# EAGLE library part TEXAS_INSTRUMENTS_CD74HC4067M96 (library Upverter Library)
High-speed CMOS 16-channel analog multiplexer/demultiplexer 24-SOIC -55 to 125
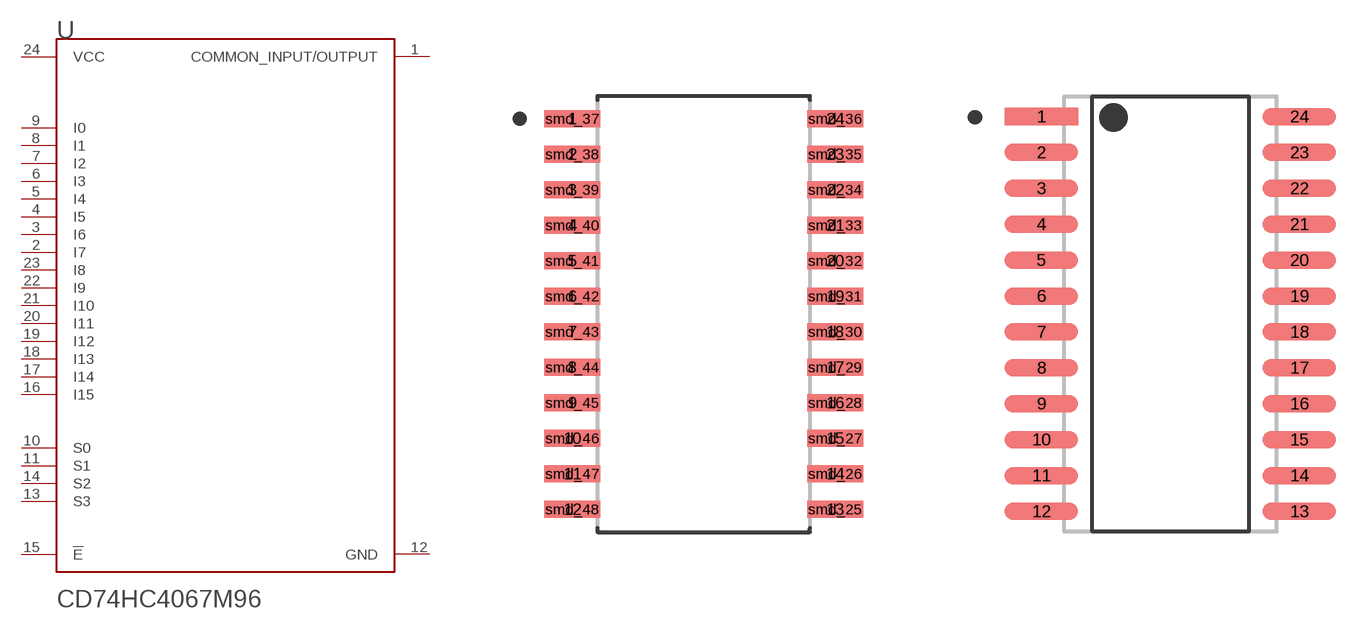
[diagram p0: symbol with the pads of TEXAS_INSTRUMENTS_CD74HC4067M96_0; footprints TEXAS_INSTRUMENTS_CD74HC4067M96_0, TEXAS_INSTRUMENTS_CD74HC4067M96_1]

Designator prefix U

## TEXAS_INSTRUMENTS_CD74HC4067M96TEXAS_INSTRUMENTS_CD74HC4067M96_0_0 (MF: Texas Instruments; MPN: CD74HC4067M96; ambient_temperature_range_high: +125°C; ambient_temperature_range_low: -55°C; automotive: No; centroid_not_specified: No; datasheet: http://www.ti.com/lit/ds/symlink/cd74hc4067.pdf; device_class_L1: Integrated Circuits (ICs); device_class_L2: Logic ICs; device_class_L3: Multiplexers; digikey_description: IC MUX/DEMUX 1X16 24SOIC; digikey_part_number: 296-29408-1-ND; footprint_parameters_1: {"fp_type":"SOIC_narrow","params":{"N":{"nom":24,"long name":"Number of leads","min":null,"max":null,"short name":"N","type":"count"},"A":{"nom":false,"long name":"Height","min":false,"max":2650000,"short name":"A","type":"measurement"},"A1":{"nom":false,"long name":"Package clearance","min":100000,"max":300000,"short name":"A1","type":"measurement"},"A2":{"nom":false,"long name":"Package height","min":false,"max":2550000,"short name":"A2","type":"measurement"},"D":{"nom":false,"long name":"Package length","min":15200000,"max":15600000,"short name":"D","type":"measurement"},"E":{"nom":false,"long name":"Width w/ leads","min":9970000,"max":10630000,"short name":"E","type":"measurement"},"E1":{"nom":false,"long name":"Package width","min":7400000,"max":7600000,"short name":"E1","type":"measurement"},"B":{"nom":false,"long name":"Lead width","min":310000,"max":510000,"short name":"B","type":"measurement"},"C":{"nom":false,"long name":"Lead thickness","min":200000,"max":330000,"short name":"C","type":"measurement"},"e":{"nom":1270000,"long name":"Lead pitch","min":null,"max":null,"short name":"e","type":"measurement"},"L":{"nom":false,"long name":"Lead foot length","min":400000,"max":1270000,"short name":"L","type":"measurement"},"PHI":{"nom":false,"long name":"Lead foot angle","min":0,"max":8000000,"short name":"PHI","type":"measurement"},"HT":{"default":"No","long name":"Thermal pad","type":"multichoiceparent","short name":"HT","children":[]},"offset x":{"nom":0,"long name":"X Center offset","min":null,"max":null,"short name":"offset x","type":"measurement"},"offset y":{"nom":0,"long name":"Y Center offset","min":null,"max":null,"short name":"offset y","type":"measurement"},"LS":{"default":"Rounded rectangle","long name":"Land shape","type":"multichoice","short name":"LS"},"LS1":{"default":"Rectangle","long name":"Land shape (Pin 1)","type":"multichoice","short name":"LS1"},"solder toe":{"nom":550000,"long name":"Solder fillet (toe)","min":null,"max":null,"short name":"solder toe","type":"fixedmeasurement"},"solder heel":{"nom":450000,"long name":"Solder fillet (heel)","min":null,"max":null,"short name":"solder heel","type":"fixedmeasurement"},"solder side":{"nom":50000,"long name":"Solder fillet (side)","min":null,"max":null,"short name":"solder side","type":"fixedmeasurement"},"courtyard":{"nom":500000,"long name":"Courtyard","min":null,"max":null,"short name":"courtyard","type":"fixedmeasurement"},"SF":{"default":"A","long name":"Packing level","type":"multichoiceparent","short name":"SF","help":"http://support.upverter.com/customer/portal/articles/978783-what-is-a-footprint-packing-level","children":["solder toe","solder heel","solder side","courtyard"]}}}; footprint_parameters_2: {"fp_type":"SOIC_narrow","params":{"N":{"nom":24,"long name":"Number of leads","min":null,"max":null,"short name":"N","type":"count"},"A":{"nom":false,"long name":"Height","min":false,"max":2650000,"short name":"A","type":"measurement"},"A1":{"nom":false,"long name":"Package clearance","min":100000,"max":300000,"short name":"A1","type":"measurement"},"A2":{"nom":false,"long name":"Package height","min":false,"max":2550000,"short name":"A2","type":"measurement"},"D":{"nom":false,"long name":"Package length","min":15200000,"max":15600000,"short name":"D","type":"measurement"},"E":{"nom":false,"long name":"Width w/ leads","min":9970000,"max":10630000,"short name":"E","type":"measurement"},"E1":{"nom":false,"long name":"Package width","min":7400000,"max":7600000,"short name":"E1","type":"measurement"},"B":{"nom":false,"long name":"Lead width","min":310000,"max":510000,"short name":"B","type":"measurement"},"C":{"nom":false,"long name":"Lead thickness","min":200000,"max":330000,"short name":"C","type":"measurement"},"e":{"nom":1270000,"long name":"Lead pitch","min":null,"max":null,"short name":"e","type":"measurement"},"L":{"nom":false,"long name":"Lead foot length","min":400000,"max":1270000,"short name":"L","type":"measurement"},"PHI":{"nom":false,"long name":"Lead foot angle","min":0,"max":8000000,"short name":"PHI","type":"measurement"},"HT":{"default":"No","long name":"Thermal pad","type":"multichoiceparent","short name":"HT","children":[]},"offset x":{"nom":0,"long name":"X Center offset","min":null,"max":null,"short name":"offset x","type":"measurement"},"offset y":{"nom":0,"long name":"Y Center offset","min":null,"max":null,"short name":"offset y","type":"measurement"},"LS":{"default":"Rounded rectangle","long name":"Land shape","type":"multichoice","short name":"LS"},"LS1":{"default":"Rectangle","long name":"Land shape (Pin 1)","type":"multichoice","short name":"LS1"},"solder toe":{"nom":350000,"long name":"Solder fillet (toe)","min":null,"max":null,"short name":"solder toe","type":"fixedmeasurement"},"solder heel":{"nom":350000,"long name":"Solder fillet (heel)","min":null,"max":null,"short name":"solder heel","type":"fixedmeasurement"},"solder side":{"nom":30000,"long name":"Solder fillet (side)","min":null,"max":null,"short name":"solder side","type":"fixedmeasurement"},"courtyard":{"nom":250000,"long name":"Courtyard","min":null,"max":null,"short name":"courtyard","type":"fixedmeasurement"},"SF":{"default":"B","long name":"Packing level","type":"multichoiceparent","short name":"SF","help":"http://support.upverter.com/customer/portal/articles/978783-what-is-a-footprint-packing-level","children":["solder toe","solder heel","solder side","courtyard"]}}}; footprint_parameters_3: {"fp_type":"SOIC_narrow","params":{"N":{"nom":24,"long name":"Number of leads","min":null,"max":null,"short name":"N","type":"count"},"A":{"nom":false,"long name":"Height","min":false,"max":2650000,"short name":"A","type":"measurement"},"A1":{"nom":false,"long name":"Package clearance","min":100000,"max":300000,"short name":"A1","type":"measurement"},"A2":{"nom":false,"long name":"Package height","min":false,"max":2550000,"short name":"A2","type":"measurement"},"D":{"nom":false,"long name":"Package length","min":15200000,"max":15600000,"short name":"D","type":"measurement"},"E":{"nom":false,"long name":"Width w/ leads","min":9970000,"max":10630000,"short name":"E","type":"measurement"},"E1":{"nom":false,"long name":"Package width","min":7400000,"max":7600000,"short name":"E1","type":"measurement"},"B":{"nom":false,"long name":"Lead width","min":310000,"max":510000,"short name":"B","type":"measurement"},"C":{"nom":false,"long name":"Lead thickness","min":200000,"max":330000,"short name":"C","type":"measurement"},"e":{"nom":1270000,"long name":"Lead pitch","min":null,"max":null,"short name":"e","type":"measurement"},"L":{"nom":false,"long name":"Lead foot length","min":400000,"max":1270000,"short name":"L","type":"measurement"},"PHI":{"nom":false,"long name":"Lead foot angle","min":0,"max":8000000,"short name":"PHI","type":"measurement"},"HT":{"default":"No","long name":"Thermal pad","type":"multichoiceparent","short name":"HT","children":[]},"offset x":{"nom":0,"long name":"X Center offset","min":null,"max":null,"short name":"offset x","type":"measurement"},"offset y":{"nom":0,"long name":"Y Center offset","min":null,"max":null,"short name":"offset y","type":"measurement"},"LS":{"default":"Rounded rectangle","long name":"Land shape","type":"multichoice","short name":"LS"},"LS1":{"default":"Rectangle","long name":"Land shape (Pin 1)","type":"multichoice","short name":"LS1"},"solder toe":{"nom":150000,"long name":"Solder fillet (toe)","min":null,"max":null,"short name":"solder toe","type":"fixedmeasurement"},"solder heel":{"nom":250000,"long name":"Solder fillet (heel)","min":null,"max":null,"short name":"solder heel","type":"fixedmeasurement"},"solder side":{"nom":10000,"long name":"Solder fillet (side)","min":null,"max":null,"short name":"solder side","type":"fixedmeasurement"},"courtyard":{"nom":100000,"long name":"Courtyard","min":null,"max":null,"short name":"courtyard","type":"fixedmeasurement"},"SF":{"default":"C","long name":"Packing level","type":"multichoiceparent","short name":"SF","help":"http://support.upverter.com/customer/portal/articles/978783-what-is-a-footprint-packing-level","children":["solder toe","solder heel","solder side","courtyard"]}}}; footprint_variant_name_0: Recommended_Land_Pattern; footprint_variant_name_1: IPC_A; footprint_variant_name_2: IPC_B; footprint_variant_name_3: IPC_C; height: 2.65mm; ipc_land_pattern_name: SOIC127P1030X265-24; lead_free: Yes; logic_function_desc: Non-Inverting; max_junction_temp: +150°C; max_supply_voltage: 6V; mfg_package_ident: DW0024A; mfg_package_ident_component_id: 7ddb0374575ad7a2; mfg_package_ident_date: 0; mfg_package_ident_rev: 0; min_supply_voltage: 2V; mouser_description: Multiplexer Switch ICs Hi-Spd CMOS 16Ch Anl Mltplxr/Demltplxr; mouser_part_number: 595-CD74HC4067M96; number_of_circuits: 1; number_of_inputs: 16; number_of_outputs: 1; package: SOIC24; prefix: U; propagation_delay: 6ns; quiescent_current: 8uA; rohs: Yes; standoff_height: 0.1mm; temperature_range_high: +125°C; temperature_range_low: -55°C; verification_version: 0.0.0.3)  [TEXAS_INSTRUMENTS_CD74HC4067M96_0]
1  COMMON_INPUT/OUTPUT
2  I7  in
3  I6  in
4  I5  in
5  I4  in
6  I3  in
7  I2  in
8  I1  in
9  I0  in
10  S0  in
11  S1  in
12  GND  pwr
13  S3  in
14  S2  in
15  !E!  in
16  I15  in
17  I14  in
18  I13  in
19  I12  in
20  I11  in
21  I10  in
22  I9  in
23  I8  in
24  VCC  pwr

## TEXAS_INSTRUMENTS_CD74HC4067M96TEXAS_INSTRUMENTS_CD74HC4067M96_0_1 (MF: Texas Instruments; MPN: CD74HC4067M96; ambient_temperature_range_high: +125°C; ambient_temperature_range_low: -55°C; automotive: No; centroid_not_specified: No; datasheet: http://www.ti.com/lit/ds/symlink/cd74hc4067.pdf; device_class_L1: Integrated Circuits (ICs); device_class_L2: Logic ICs; device_class_L3: Multiplexers; digikey_description: IC MUX/DEMUX 1X16 24SOIC; digikey_part_number: 296-29408-1-ND; footprint_parameters_1: {"fp_type":"SOIC_narrow","params":{"N":{"nom":24,"long name":"Number of leads","min":null,"max":null,"short name":"N","type":"count"},"A":{"nom":false,"long name":"Height","min":false,"max":2650000,"short name":"A","type":"measurement"},"A1":{"nom":false,"long name":"Package clearance","min":100000,"max":300000,"short name":"A1","type":"measurement"},"A2":{"nom":false,"long name":"Package height","min":false,"max":2550000,"short name":"A2","type":"measurement"},"D":{"nom":false,"long name":"Package length","min":15200000,"max":15600000,"short name":"D","type":"measurement"},"E":{"nom":false,"long name":"Width w/ leads","min":9970000,"max":10630000,"short name":"E","type":"measurement"},"E1":{"nom":false,"long name":"Package width","min":7400000,"max":7600000,"short name":"E1","type":"measurement"},"B":{"nom":false,"long name":"Lead width","min":310000,"max":510000,"short name":"B","type":"measurement"},"C":{"nom":false,"long name":"Lead thickness","min":200000,"max":330000,"short name":"C","type":"measurement"},"e":{"nom":1270000,"long name":"Lead pitch","min":null,"max":null,"short name":"e","type":"measurement"},"L":{"nom":false,"long name":"Lead foot length","min":400000,"max":1270000,"short name":"L","type":"measurement"},"PHI":{"nom":false,"long name":"Lead foot angle","min":0,"max":8000000,"short name":"PHI","type":"measurement"},"HT":{"default":"No","long name":"Thermal pad","type":"multichoiceparent","short name":"HT","children":[]},"offset x":{"nom":0,"long name":"X Center offset","min":null,"max":null,"short name":"offset x","type":"measurement"},"offset y":{"nom":0,"long name":"Y Center offset","min":null,"max":null,"short name":"offset y","type":"measurement"},"LS":{"default":"Rounded rectangle","long name":"Land shape","type":"multichoice","short name":"LS"},"LS1":{"default":"Rectangle","long name":"Land shape (Pin 1)","type":"multichoice","short name":"LS1"},"solder toe":{"nom":550000,"long name":"Solder fillet (toe)","min":null,"max":null,"short name":"solder toe","type":"fixedmeasurement"},"solder heel":{"nom":450000,"long name":"Solder fillet (heel)","min":null,"max":null,"short name":"solder heel","type":"fixedmeasurement"},"solder side":{"nom":50000,"long name":"Solder fillet (side)","min":null,"max":null,"short name":"solder side","type":"fixedmeasurement"},"courtyard":{"nom":500000,"long name":"Courtyard","min":null,"max":null,"short name":"courtyard","type":"fixedmeasurement"},"SF":{"default":"A","long name":"Packing level","type":"multichoiceparent","short name":"SF","help":"http://support.upverter.com/customer/portal/articles/978783-what-is-a-footprint-packing-level","children":["solder toe","solder heel","solder side","courtyard"]}}}; footprint_parameters_2: {"fp_type":"SOIC_narrow","params":{"N":{"nom":24,"long name":"Number of leads","min":null,"max":null,"short name":"N","type":"count"},"A":{"nom":false,"long name":"Height","min":false,"max":2650000,"short name":"A","type":"measurement"},"A1":{"nom":false,"long name":"Package clearance","min":100000,"max":300000,"short name":"A1","type":"measurement"},"A2":{"nom":false,"long name":"Package height","min":false,"max":2550000,"short name":"A2","type":"measurement"},"D":{"nom":false,"long name":"Package length","min":15200000,"max":15600000,"short name":"D","type":"measurement"},"E":{"nom":false,"long name":"Width w/ leads","min":9970000,"max":10630000,"short name":"E","type":"measurement"},"E1":{"nom":false,"long name":"Package width","min":7400000,"max":7600000,"short name":"E1","type":"measurement"},"B":{"nom":false,"long name":"Lead width","min":310000,"max":510000,"short name":"B","type":"measurement"},"C":{"nom":false,"long name":"Lead thickness","min":200000,"max":330000,"short name":"C","type":"measurement"},"e":{"nom":1270000,"long name":"Lead pitch","min":null,"max":null,"short name":"e","type":"measurement"},"L":{"nom":false,"long name":"Lead foot length","min":400000,"max":1270000,"short name":"L","type":"measurement"},"PHI":{"nom":false,"long name":"Lead foot angle","min":0,"max":8000000,"short name":"PHI","type":"measurement"},"HT":{"default":"No","long name":"Thermal pad","type":"multichoiceparent","short name":"HT","children":[]},"offset x":{"nom":0,"long name":"X Center offset","min":null,"max":null,"short name":"offset x","type":"measurement"},"offset y":{"nom":0,"long name":"Y Center offset","min":null,"max":null,"short name":"offset y","type":"measurement"},"LS":{"default":"Rounded rectangle","long name":"Land shape","type":"multichoice","short name":"LS"},"LS1":{"default":"Rectangle","long name":"Land shape (Pin 1)","type":"multichoice","short name":"LS1"},"solder toe":{"nom":350000,"long name":"Solder fillet (toe)","min":null,"max":null,"short name":"solder toe","type":"fixedmeasurement"},"solder heel":{"nom":350000,"long name":"Solder fillet (heel)","min":null,"max":null,"short name":"solder heel","type":"fixedmeasurement"},"solder side":{"nom":30000,"long name":"Solder fillet (side)","min":null,"max":null,"short name":"solder side","type":"fixedmeasurement"},"courtyard":{"nom":250000,"long name":"Courtyard","min":null,"max":null,"short name":"courtyard","type":"fixedmeasurement"},"SF":{"default":"B","long name":"Packing level","type":"multichoiceparent","short name":"SF","help":"http://support.upverter.com/customer/portal/articles/978783-what-is-a-footprint-packing-level","children":["solder toe","solder heel","solder side","courtyard"]}}}; footprint_parameters_3: {"fp_type":"SOIC_narrow","params":{"N":{"nom":24,"long name":"Number of leads","min":null,"max":null,"short name":"N","type":"count"},"A":{"nom":false,"long name":"Height","min":false,"max":2650000,"short name":"A","type":"measurement"},"A1":{"nom":false,"long name":"Package clearance","min":100000,"max":300000,"short name":"A1","type":"measurement"},"A2":{"nom":false,"long name":"Package height","min":false,"max":2550000,"short name":"A2","type":"measurement"},"D":{"nom":false,"long name":"Package length","min":15200000,"max":15600000,"short name":"D","type":"measurement"},"E":{"nom":false,"long name":"Width w/ leads","min":9970000,"max":10630000,"short name":"E","type":"measurement"},"E1":{"nom":false,"long name":"Package width","min":7400000,"max":7600000,"short name":"E1","type":"measurement"},"B":{"nom":false,"long name":"Lead width","min":310000,"max":510000,"short name":"B","type":"measurement"},"C":{"nom":false,"long name":"Lead thickness","min":200000,"max":330000,"short name":"C","type":"measurement"},"e":{"nom":1270000,"long name":"Lead pitch","min":null,"max":null,"short name":"e","type":"measurement"},"L":{"nom":false,"long name":"Lead foot length","min":400000,"max":1270000,"short name":"L","type":"measurement"},"PHI":{"nom":false,"long name":"Lead foot angle","min":0,"max":8000000,"short name":"PHI","type":"measurement"},"HT":{"default":"No","long name":"Thermal pad","type":"multichoiceparent","short name":"HT","children":[]},"offset x":{"nom":0,"long name":"X Center offset","min":null,"max":null,"short name":"offset x","type":"measurement"},"offset y":{"nom":0,"long name":"Y Center offset","min":null,"max":null,"short name":"offset y","type":"measurement"},"LS":{"default":"Rounded rectangle","long name":"Land shape","type":"multichoice","short name":"LS"},"LS1":{"default":"Rectangle","long name":"Land shape (Pin 1)","type":"multichoice","short name":"LS1"},"solder toe":{"nom":150000,"long name":"Solder fillet (toe)","min":null,"max":null,"short name":"solder toe","type":"fixedmeasurement"},"solder heel":{"nom":250000,"long name":"Solder fillet (heel)","min":null,"max":null,"short name":"solder heel","type":"fixedmeasurement"},"solder side":{"nom":10000,"long name":"Solder fillet (side)","min":null,"max":null,"short name":"solder side","type":"fixedmeasurement"},"courtyard":{"nom":100000,"long name":"Courtyard","min":null,"max":null,"short name":"courtyard","type":"fixedmeasurement"},"SF":{"default":"C","long name":"Packing level","type":"multichoiceparent","short name":"SF","help":"http://support.upverter.com/customer/portal/articles/978783-what-is-a-footprint-packing-level","children":["solder toe","solder heel","solder side","courtyard"]}}}; footprint_variant_name_0: Recommended_Land_Pattern; footprint_variant_name_1: IPC_A; footprint_variant_name_2: IPC_B; footprint_variant_name_3: IPC_C; height: 2.65mm; ipc_land_pattern_name: SOIC127P1030X265-24; lead_free: Yes; logic_function_desc: Non-Inverting; max_junction_temp: +150°C; max_supply_voltage: 6V; mfg_package_ident: DW0024A; mfg_package_ident_component_id: 7ddb0374575ad7a2; mfg_package_ident_date: 0; mfg_package_ident_rev: 0; min_supply_voltage: 2V; mouser_description: Multiplexer Switch ICs Hi-Spd CMOS 16Ch Anl Mltplxr/Demltplxr; mouser_part_number: 595-CD74HC4067M96; number_of_circuits: 1; number_of_inputs: 16; number_of_outputs: 1; package: SOIC24; prefix: U; propagation_delay: 6ns; quiescent_current: 8uA; rohs: Yes; standoff_height: 0.1mm; temperature_range_high: +125°C; temperature_range_low: -55°C; verification_version: 0.0.0.3)  [TEXAS_INSTRUMENTS_CD74HC4067M96_1]
Pads as for TEXAS_INSTRUMENTS_CD74HC4067M96_0

## TEXAS_INSTRUMENTS_CD74HC4067M96TEXAS_INSTRUMENTS_CD74HC4067M96_0_2 (MF: Texas Instruments; MPN: CD74HC4067M96; ambient_temperature_range_high: +125°C; ambient_temperature_range_low: -55°C; automotive: No; centroid_not_specified: No; datasheet: http://www.ti.com/lit/ds/symlink/cd74hc4067.pdf; device_class_L1: Integrated Circuits (ICs); device_class_L2: Logic ICs; device_class_L3: Multiplexers; digikey_description: IC MUX/DEMUX 1X16 24SOIC; digikey_part_number: 296-29408-1-ND; footprint_parameters_1: {"fp_type":"SOIC_narrow","params":{"N":{"nom":24,"long name":"Number of leads","min":null,"max":null,"short name":"N","type":"count"},"A":{"nom":false,"long name":"Height","min":false,"max":2650000,"short name":"A","type":"measurement"},"A1":{"nom":false,"long name":"Package clearance","min":100000,"max":300000,"short name":"A1","type":"measurement"},"A2":{"nom":false,"long name":"Package height","min":false,"max":2550000,"short name":"A2","type":"measurement"},"D":{"nom":false,"long name":"Package length","min":15200000,"max":15600000,"short name":"D","type":"measurement"},"E":{"nom":false,"long name":"Width w/ leads","min":9970000,"max":10630000,"short name":"E","type":"measurement"},"E1":{"nom":false,"long name":"Package width","min":7400000,"max":7600000,"short name":"E1","type":"measurement"},"B":{"nom":false,"long name":"Lead width","min":310000,"max":510000,"short name":"B","type":"measurement"},"C":{"nom":false,"long name":"Lead thickness","min":200000,"max":330000,"short name":"C","type":"measurement"},"e":{"nom":1270000,"long name":"Lead pitch","min":null,"max":null,"short name":"e","type":"measurement"},"L":{"nom":false,"long name":"Lead foot length","min":400000,"max":1270000,"short name":"L","type":"measurement"},"PHI":{"nom":false,"long name":"Lead foot angle","min":0,"max":8000000,"short name":"PHI","type":"measurement"},"HT":{"default":"No","long name":"Thermal pad","type":"multichoiceparent","short name":"HT","children":[]},"offset x":{"nom":0,"long name":"X Center offset","min":null,"max":null,"short name":"offset x","type":"measurement"},"offset y":{"nom":0,"long name":"Y Center offset","min":null,"max":null,"short name":"offset y","type":"measurement"},"LS":{"default":"Rounded rectangle","long name":"Land shape","type":"multichoice","short name":"LS"},"LS1":{"default":"Rectangle","long name":"Land shape (Pin 1)","type":"multichoice","short name":"LS1"},"solder toe":{"nom":550000,"long name":"Solder fillet (toe)","min":null,"max":null,"short name":"solder toe","type":"fixedmeasurement"},"solder heel":{"nom":450000,"long name":"Solder fillet (heel)","min":null,"max":null,"short name":"solder heel","type":"fixedmeasurement"},"solder side":{"nom":50000,"long name":"Solder fillet (side)","min":null,"max":null,"short name":"solder side","type":"fixedmeasurement"},"courtyard":{"nom":500000,"long name":"Courtyard","min":null,"max":null,"short name":"courtyard","type":"fixedmeasurement"},"SF":{"default":"A","long name":"Packing level","type":"multichoiceparent","short name":"SF","help":"http://support.upverter.com/customer/portal/articles/978783-what-is-a-footprint-packing-level","children":["solder toe","solder heel","solder side","courtyard"]}}}; footprint_parameters_2: {"fp_type":"SOIC_narrow","params":{"N":{"nom":24,"long name":"Number of leads","min":null,"max":null,"short name":"N","type":"count"},"A":{"nom":false,"long name":"Height","min":false,"max":2650000,"short name":"A","type":"measurement"},"A1":{"nom":false,"long name":"Package clearance","min":100000,"max":300000,"short name":"A1","type":"measurement"},"A2":{"nom":false,"long name":"Package height","min":false,"max":2550000,"short name":"A2","type":"measurement"},"D":{"nom":false,"long name":"Package length","min":15200000,"max":15600000,"short name":"D","type":"measurement"},"E":{"nom":false,"long name":"Width w/ leads","min":9970000,"max":10630000,"short name":"E","type":"measurement"},"E1":{"nom":false,"long name":"Package width","min":7400000,"max":7600000,"short name":"E1","type":"measurement"},"B":{"nom":false,"long name":"Lead width","min":310000,"max":510000,"short name":"B","type":"measurement"},"C":{"nom":false,"long name":"Lead thickness","min":200000,"max":330000,"short name":"C","type":"measurement"},"e":{"nom":1270000,"long name":"Lead pitch","min":null,"max":null,"short name":"e","type":"measurement"},"L":{"nom":false,"long name":"Lead foot length","min":400000,"max":1270000,"short name":"L","type":"measurement"},"PHI":{"nom":false,"long name":"Lead foot angle","min":0,"max":8000000,"short name":"PHI","type":"measurement"},"HT":{"default":"No","long name":"Thermal pad","type":"multichoiceparent","short name":"HT","children":[]},"offset x":{"nom":0,"long name":"X Center offset","min":null,"max":null,"short name":"offset x","type":"measurement"},"offset y":{"nom":0,"long name":"Y Center offset","min":null,"max":null,"short name":"offset y","type":"measurement"},"LS":{"default":"Rounded rectangle","long name":"Land shape","type":"multichoice","short name":"LS"},"LS1":{"default":"Rectangle","long name":"Land shape (Pin 1)","type":"multichoice","short name":"LS1"},"solder toe":{"nom":350000,"long name":"Solder fillet (toe)","min":null,"max":null,"short name":"solder toe","type":"fixedmeasurement"},"solder heel":{"nom":350000,"long name":"Solder fillet (heel)","min":null,"max":null,"short name":"solder heel","type":"fixedmeasurement"},"solder side":{"nom":30000,"long name":"Solder fillet (side)","min":null,"max":null,"short name":"solder side","type":"fixedmeasurement"},"courtyard":{"nom":250000,"long name":"Courtyard","min":null,"max":null,"short name":"courtyard","type":"fixedmeasurement"},"SF":{"default":"B","long name":"Packing level","type":"multichoiceparent","short name":"SF","help":"http://support.upverter.com/customer/portal/articles/978783-what-is-a-footprint-packing-level","children":["solder toe","solder heel","solder side","courtyard"]}}}; footprint_parameters_3: {"fp_type":"SOIC_narrow","params":{"N":{"nom":24,"long name":"Number of leads","min":null,"max":null,"short name":"N","type":"count"},"A":{"nom":false,"long name":"Height","min":false,"max":2650000,"short name":"A","type":"measurement"},"A1":{"nom":false,"long name":"Package clearance","min":100000,"max":300000,"short name":"A1","type":"measurement"},"A2":{"nom":false,"long name":"Package height","min":false,"max":2550000,"short name":"A2","type":"measurement"},"D":{"nom":false,"long name":"Package length","min":15200000,"max":15600000,"short name":"D","type":"measurement"},"E":{"nom":false,"long name":"Width w/ leads","min":9970000,"max":10630000,"short name":"E","type":"measurement"},"E1":{"nom":false,"long name":"Package width","min":7400000,"max":7600000,"short name":"E1","type":"measurement"},"B":{"nom":false,"long name":"Lead width","min":310000,"max":510000,"short name":"B","type":"measurement"},"C":{"nom":false,"long name":"Lead thickness","min":200000,"max":330000,"short name":"C","type":"measurement"},"e":{"nom":1270000,"long name":"Lead pitch","min":null,"max":null,"short name":"e","type":"measurement"},"L":{"nom":false,"long name":"Lead foot length","min":400000,"max":1270000,"short name":"L","type":"measurement"},"PHI":{"nom":false,"long name":"Lead foot angle","min":0,"max":8000000,"short name":"PHI","type":"measurement"},"HT":{"default":"No","long name":"Thermal pad","type":"multichoiceparent","short name":"HT","children":[]},"offset x":{"nom":0,"long name":"X Center offset","min":null,"max":null,"short name":"offset x","type":"measurement"},"offset y":{"nom":0,"long name":"Y Center offset","min":null,"max":null,"short name":"offset y","type":"measurement"},"LS":{"default":"Rounded rectangle","long name":"Land shape","type":"multichoice","short name":"LS"},"LS1":{"default":"Rectangle","long name":"Land shape (Pin 1)","type":"multichoice","short name":"LS1"},"solder toe":{"nom":150000,"long name":"Solder fillet (toe)","min":null,"max":null,"short name":"solder toe","type":"fixedmeasurement"},"solder heel":{"nom":250000,"long name":"Solder fillet (heel)","min":null,"max":null,"short name":"solder heel","type":"fixedmeasurement"},"solder side":{"nom":10000,"long name":"Solder fillet (side)","min":null,"max":null,"short name":"solder side","type":"fixedmeasurement"},"courtyard":{"nom":100000,"long name":"Courtyard","min":null,"max":null,"short name":"courtyard","type":"fixedmeasurement"},"SF":{"default":"C","long name":"Packing level","type":"multichoiceparent","short name":"SF","help":"http://support.upverter.com/customer/portal/articles/978783-what-is-a-footprint-packing-level","children":["solder toe","solder heel","solder side","courtyard"]}}}; footprint_variant_name_0: Recommended_Land_Pattern; footprint_variant_name_1: IPC_A; footprint_variant_name_2: IPC_B; footprint_variant_name_3: IPC_C; height: 2.65mm; ipc_land_pattern_name: SOIC127P1030X265-24; lead_free: Yes; logic_function_desc: Non-Inverting; max_junction_temp: +150°C; max_supply_voltage: 6V; mfg_package_ident: DW0024A; mfg_package_ident_component_id: 7ddb0374575ad7a2; mfg_package_ident_date: 0; mfg_package_ident_rev: 0; min_supply_voltage: 2V; mouser_description: Multiplexer Switch ICs Hi-Spd CMOS 16Ch Anl Mltplxr/Demltplxr; mouser_part_number: 595-CD74HC4067M96; number_of_circuits: 1; number_of_inputs: 16; number_of_outputs: 1; package: SOIC24; prefix: U; propagation_delay: 6ns; quiescent_current: 8uA; rohs: Yes; standoff_height: 0.1mm; temperature_range_high: +125°C; temperature_range_low: -55°C; verification_version: 0.0.0.3)  [TEXAS_INSTRUMENTS_CD74HC4067M96_2]
Pads as for TEXAS_INSTRUMENTS_CD74HC4067M96_0

## TEXAS_INSTRUMENTS_CD74HC4067M96TEXAS_INSTRUMENTS_CD74HC4067M96_0_3 (MF: Texas Instruments; MPN: CD74HC4067M96; ambient_temperature_range_high: +125°C; ambient_temperature_range_low: -55°C; automotive: No; centroid_not_specified: No; datasheet: http://www.ti.com/lit/ds/symlink/cd74hc4067.pdf; device_class_L1: Integrated Circuits (ICs); device_class_L2: Logic ICs; device_class_L3: Multiplexers; digikey_description: IC MUX/DEMUX 1X16 24SOIC; digikey_part_number: 296-29408-1-ND; footprint_parameters_1: {"fp_type":"SOIC_narrow","params":{"N":{"nom":24,"long name":"Number of leads","min":null,"max":null,"short name":"N","type":"count"},"A":{"nom":false,"long name":"Height","min":false,"max":2650000,"short name":"A","type":"measurement"},"A1":{"nom":false,"long name":"Package clearance","min":100000,"max":300000,"short name":"A1","type":"measurement"},"A2":{"nom":false,"long name":"Package height","min":false,"max":2550000,"short name":"A2","type":"measurement"},"D":{"nom":false,"long name":"Package length","min":15200000,"max":15600000,"short name":"D","type":"measurement"},"E":{"nom":false,"long name":"Width w/ leads","min":9970000,"max":10630000,"short name":"E","type":"measurement"},"E1":{"nom":false,"long name":"Package width","min":7400000,"max":7600000,"short name":"E1","type":"measurement"},"B":{"nom":false,"long name":"Lead width","min":310000,"max":510000,"short name":"B","type":"measurement"},"C":{"nom":false,"long name":"Lead thickness","min":200000,"max":330000,"short name":"C","type":"measurement"},"e":{"nom":1270000,"long name":"Lead pitch","min":null,"max":null,"short name":"e","type":"measurement"},"L":{"nom":false,"long name":"Lead foot length","min":400000,"max":1270000,"short name":"L","type":"measurement"},"PHI":{"nom":false,"long name":"Lead foot angle","min":0,"max":8000000,"short name":"PHI","type":"measurement"},"HT":{"default":"No","long name":"Thermal pad","type":"multichoiceparent","short name":"HT","children":[]},"offset x":{"nom":0,"long name":"X Center offset","min":null,"max":null,"short name":"offset x","type":"measurement"},"offset y":{"nom":0,"long name":"Y Center offset","min":null,"max":null,"short name":"offset y","type":"measurement"},"LS":{"default":"Rounded rectangle","long name":"Land shape","type":"multichoice","short name":"LS"},"LS1":{"default":"Rectangle","long name":"Land shape (Pin 1)","type":"multichoice","short name":"LS1"},"solder toe":{"nom":550000,"long name":"Solder fillet (toe)","min":null,"max":null,"short name":"solder toe","type":"fixedmeasurement"},"solder heel":{"nom":450000,"long name":"Solder fillet (heel)","min":null,"max":null,"short name":"solder heel","type":"fixedmeasurement"},"solder side":{"nom":50000,"long name":"Solder fillet (side)","min":null,"max":null,"short name":"solder side","type":"fixedmeasurement"},"courtyard":{"nom":500000,"long name":"Courtyard","min":null,"max":null,"short name":"courtyard","type":"fixedmeasurement"},"SF":{"default":"A","long name":"Packing level","type":"multichoiceparent","short name":"SF","help":"http://support.upverter.com/customer/portal/articles/978783-what-is-a-footprint-packing-level","children":["solder toe","solder heel","solder side","courtyard"]}}}; footprint_parameters_2: {"fp_type":"SOIC_narrow","params":{"N":{"nom":24,"long name":"Number of leads","min":null,"max":null,"short name":"N","type":"count"},"A":{"nom":false,"long name":"Height","min":false,"max":2650000,"short name":"A","type":"measurement"},"A1":{"nom":false,"long name":"Package clearance","min":100000,"max":300000,"short name":"A1","type":"measurement"},"A2":{"nom":false,"long name":"Package height","min":false,"max":2550000,"short name":"A2","type":"measurement"},"D":{"nom":false,"long name":"Package length","min":15200000,"max":15600000,"short name":"D","type":"measurement"},"E":{"nom":false,"long name":"Width w/ leads","min":9970000,"max":10630000,"short name":"E","type":"measurement"},"E1":{"nom":false,"long name":"Package width","min":7400000,"max":7600000,"short name":"E1","type":"measurement"},"B":{"nom":false,"long name":"Lead width","min":310000,"max":510000,"short name":"B","type":"measurement"},"C":{"nom":false,"long name":"Lead thickness","min":200000,"max":330000,"short name":"C","type":"measurement"},"e":{"nom":1270000,"long name":"Lead pitch","min":null,"max":null,"short name":"e","type":"measurement"},"L":{"nom":false,"long name":"Lead foot length","min":400000,"max":1270000,"short name":"L","type":"measurement"},"PHI":{"nom":false,"long name":"Lead foot angle","min":0,"max":8000000,"short name":"PHI","type":"measurement"},"HT":{"default":"No","long name":"Thermal pad","type":"multichoiceparent","short name":"HT","children":[]},"offset x":{"nom":0,"long name":"X Center offset","min":null,"max":null,"short name":"offset x","type":"measurement"},"offset y":{"nom":0,"long name":"Y Center offset","min":null,"max":null,"short name":"offset y","type":"measurement"},"LS":{"default":"Rounded rectangle","long name":"Land shape","type":"multichoice","short name":"LS"},"LS1":{"default":"Rectangle","long name":"Land shape (Pin 1)","type":"multichoice","short name":"LS1"},"solder toe":{"nom":350000,"long name":"Solder fillet (toe)","min":null,"max":null,"short name":"solder toe","type":"fixedmeasurement"},"solder heel":{"nom":350000,"long name":"Solder fillet (heel)","min":null,"max":null,"short name":"solder heel","type":"fixedmeasurement"},"solder side":{"nom":30000,"long name":"Solder fillet (side)","min":null,"max":null,"short name":"solder side","type":"fixedmeasurement"},"courtyard":{"nom":250000,"long name":"Courtyard","min":null,"max":null,"short name":"courtyard","type":"fixedmeasurement"},"SF":{"default":"B","long name":"Packing level","type":"multichoiceparent","short name":"SF","help":"http://support.upverter.com/customer/portal/articles/978783-what-is-a-footprint-packing-level","children":["solder toe","solder heel","solder side","courtyard"]}}}; footprint_parameters_3: {"fp_type":"SOIC_narrow","params":{"N":{"nom":24,"long name":"Number of leads","min":null,"max":null,"short name":"N","type":"count"},"A":{"nom":false,"long name":"Height","min":false,"max":2650000,"short name":"A","type":"measurement"},"A1":{"nom":false,"long name":"Package clearance","min":100000,"max":300000,"short name":"A1","type":"measurement"},"A2":{"nom":false,"long name":"Package height","min":false,"max":2550000,"short name":"A2","type":"measurement"},"D":{"nom":false,"long name":"Package length","min":15200000,"max":15600000,"short name":"D","type":"measurement"},"E":{"nom":false,"long name":"Width w/ leads","min":9970000,"max":10630000,"short name":"E","type":"measurement"},"E1":{"nom":false,"long name":"Package width","min":7400000,"max":7600000,"short name":"E1","type":"measurement"},"B":{"nom":false,"long name":"Lead width","min":310000,"max":510000,"short name":"B","type":"measurement"},"C":{"nom":false,"long name":"Lead thickness","min":200000,"max":330000,"short name":"C","type":"measurement"},"e":{"nom":1270000,"long name":"Lead pitch","min":null,"max":null,"short name":"e","type":"measurement"},"L":{"nom":false,"long name":"Lead foot length","min":400000,"max":1270000,"short name":"L","type":"measurement"},"PHI":{"nom":false,"long name":"Lead foot angle","min":0,"max":8000000,"short name":"PHI","type":"measurement"},"HT":{"default":"No","long name":"Thermal pad","type":"multichoiceparent","short name":"HT","children":[]},"offset x":{"nom":0,"long name":"X Center offset","min":null,"max":null,"short name":"offset x","type":"measurement"},"offset y":{"nom":0,"long name":"Y Center offset","min":null,"max":null,"short name":"offset y","type":"measurement"},"LS":{"default":"Rounded rectangle","long name":"Land shape","type":"multichoice","short name":"LS"},"LS1":{"default":"Rectangle","long name":"Land shape (Pin 1)","type":"multichoice","short name":"LS1"},"solder toe":{"nom":150000,"long name":"Solder fillet (toe)","min":null,"max":null,"short name":"solder toe","type":"fixedmeasurement"},"solder heel":{"nom":250000,"long name":"Solder fillet (heel)","min":null,"max":null,"short name":"solder heel","type":"fixedmeasurement"},"solder side":{"nom":10000,"long name":"Solder fillet (side)","min":null,"max":null,"short name":"solder side","type":"fixedmeasurement"},"courtyard":{"nom":100000,"long name":"Courtyard","min":null,"max":null,"short name":"courtyard","type":"fixedmeasurement"},"SF":{"default":"C","long name":"Packing level","type":"multichoiceparent","short name":"SF","help":"http://support.upverter.com/customer/portal/articles/978783-what-is-a-footprint-packing-level","children":["solder toe","solder heel","solder side","courtyard"]}}}; footprint_variant_name_0: Recommended_Land_Pattern; footprint_variant_name_1: IPC_A; footprint_variant_name_2: IPC_B; footprint_variant_name_3: IPC_C; height: 2.65mm; ipc_land_pattern_name: SOIC127P1030X265-24; lead_free: Yes; logic_function_desc: Non-Inverting; max_junction_temp: +150°C; max_supply_voltage: 6V; mfg_package_ident: DW0024A; mfg_package_ident_component_id: 7ddb0374575ad7a2; mfg_package_ident_date: 0; mfg_package_ident_rev: 0; min_supply_voltage: 2V; mouser_description: Multiplexer Switch ICs Hi-Spd CMOS 16Ch Anl Mltplxr/Demltplxr; mouser_part_number: 595-CD74HC4067M96; number_of_circuits: 1; number_of_inputs: 16; number_of_outputs: 1; package: SOIC24; prefix: U; propagation_delay: 6ns; quiescent_current: 8uA; rohs: Yes; standoff_height: 0.1mm; temperature_range_high: +125°C; temperature_range_low: -55°C; verification_version: 0.0.0.3)  [TEXAS_INSTRUMENTS_CD74HC4067M96_3]
Pads as for TEXAS_INSTRUMENTS_CD74HC4067M96_0

## Footprint TEXAS_INSTRUMENTS_CD74HC4067M96_0 (pad centres in mm)
High-speed CMOS 16-channel analog multiplexer/demultiplexer 24-SOIC -55 to 125
smd 2 x 0.6: 1 -4.7,6.985; 2 -4.7,5.715; 3 -4.7,4.445; 4 -4.7,3.175; 5 -4.7,1.905; 6 -4.7,0.635; 7 -4.7,-0.635; 8 -4.7,-1.905; 9 -4.7,-3.175; 10 -4.7,-4.445; 11 -4.7,-5.715; 12 -4.7,-6.985; 13 4.7,-6.985; 14 4.7,-5.715; 15 4.7,-4.445; 16 4.7,-3.175; 17 4.7,-1.905; 18 4.7,-0.635; 19 4.7,0.635; 20 4.7,1.905; 21 4.7,3.175; 22 4.7,4.445; 23 4.7,5.715; 24 4.7,6.985
smd 1.95 x 0.55: smd_25 4.7,-6.985; smd_26 4.7,-5.715; smd_27 4.7,-4.445; smd_28 4.7,-3.175; smd_29 4.7,-1.905; smd_30 4.7,-0.635; smd_31 4.7,0.635; smd_32 4.7,1.905; smd_33 4.7,3.175; smd_34 4.7,4.445; smd_35 4.7,5.715; smd_36 4.7,6.985; smd_37 -4.7,6.985; smd_38 -4.7,5.715; smd_39 -4.7,4.445; smd_40 -4.7,3.175; smd_41 -4.7,1.905; smd_42 -4.7,0.635; smd_43 -4.7,-0.635; smd_44 -4.7,-1.905; smd_45 -4.7,-3.175; smd_46 -4.7,-4.445; smd_47 -4.7,-5.715; smd_48 -4.7,-6.985

## Footprint TEXAS_INSTRUMENTS_CD74HC4067M96_1 (pad centres in mm)
High-speed CMOS 16-channel analog multiplexer/demultiplexer 24-SOIC -55 to 125
smd 2.603 x 0.622: 1 -4.565,6.985; 2 -4.565,5.715; 3 -4.565,4.445; 4 -4.565,3.175; 5 -4.565,1.905; 6 -4.565,0.635; 7 -4.565,-0.635; 8 -4.565,-1.905; 9 -4.565,-3.175; 10 -4.565,-4.445; 11 -4.565,-5.715; 12 -4.565,-6.985; 13 4.565,-6.985; 14 4.565,-5.715; 15 4.565,-4.445; 16 4.565,-3.175; 17 4.565,-1.905; 18 4.565,-0.635; 19 4.565,0.635; 20 4.565,1.905; 21 4.565,3.175; 22 4.565,4.445; 23 4.565,5.715; 24 4.565,6.985

## Footprint TEXAS_INSTRUMENTS_CD74HC4067M96_2 (pad centres in mm)
High-speed CMOS 16-channel analog multiplexer/demultiplexer 24-SOIC -55 to 125
smd 2.303 x 0.582: 1 -4.515,6.985; 2 -4.515,5.715; 3 -4.515,4.445; 4 -4.515,3.175; 5 -4.515,1.905; 6 -4.515,0.635; 7 -4.515,-0.635; 8 -4.515,-1.905; 9 -4.515,-3.175; 10 -4.515,-4.445; 11 -4.515,-5.715; 12 -4.515,-6.985; 13 4.515,-6.985; 14 4.515,-5.715; 15 4.515,-4.445; 16 4.515,-3.175; 17 4.515,-1.905; 18 4.515,-0.635; 19 4.515,0.635; 20 4.515,1.905; 21 4.515,3.175; 22 4.515,4.445; 23 4.515,5.715; 24 4.515,6.985

## Footprint TEXAS_INSTRUMENTS_CD74HC4067M96_3 (pad centres in mm)
High-speed CMOS 16-channel analog multiplexer/demultiplexer 24-SOIC -55 to 125
smd 2.003 x 0.542: 1 -4.465,6.985; 2 -4.465,5.715; 3 -4.465,4.445; 4 -4.465,3.175; 5 -4.465,1.905; 6 -4.465,0.635; 7 -4.465,-0.635; 8 -4.465,-1.905; 9 -4.465,-3.175; 10 -4.465,-4.445; 11 -4.465,-5.715; 12 -4.465,-6.985; 13 4.465,-6.985; 14 4.465,-5.715; 15 4.465,-4.445; 16 4.465,-3.175; 17 4.465,-1.905; 18 4.465,-0.635; 19 4.465,0.635; 20 4.465,1.905; 21 4.465,3.175; 22 4.465,4.445; 23 4.465,5.715; 24 4.465,6.985